# Altium footprint library NEO-M8.PcbLib: 1 footprints
Each footprint in its own frame and in the unit in brackets; x right, y up, seen from the top. Pads: shape width x height; smd on the part's side, far side on the other; paste and mask are expansions set on the pad; w line width, h text height; cw(c..) or ccw(c..) is an arc to the next point about the centre after c.
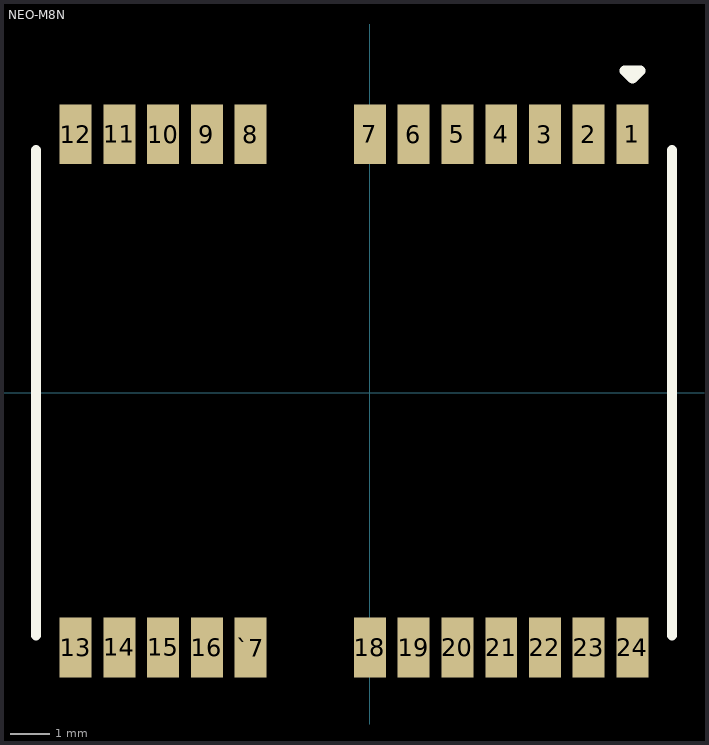
[diagram p0: the footprint, top view; thin cyan lines are the x and y axes]

## NEO-M8N [mm] "UBlox GNSS module"
height 2.6
pads (24):
  rect 0.8x1.5 smd: 1(6.6,6.5) 2(5.5,6.5) 3(4.4,6.5) 4(3.3,6.5) 5(2.2,6.5) 6(1.1,6.5) 7(0,6.5) 8(-3,6.5) 9(-4.1,6.5) 10(-5.2,6.5) 11(-6.3,6.5) 12(-7.4,6.5) 13(-7.4,-6.4) 14(-6.3,-6.4) 15(-5.2,-6.4) 16(-4.1,-6.4) 18(0,-6.4) 19(1.1,-6.4) 20(2.2,-6.4) 21(3.3,-6.4) 22(4.4,-6.4) 23(5.5,-6.4) 24(6.6,-6.4) `7(-3,-6.4)
Top Overlay:
  lines w0.254: -8.4,-6.1 -8.4,6.1 ; 7.6,-6.1 7.6,6.1 ; 6.4,8.1 6.8,8.1 6.6,7.9 6.4,8.1
3D body "User Library-UBLOX_GPS_NEO-6M.step": height 2.64, standoff 0, extent -8.7,-6.18 7.9,6.18